# EAGLE library part M25HPS (library NewSDR)
SUB-D
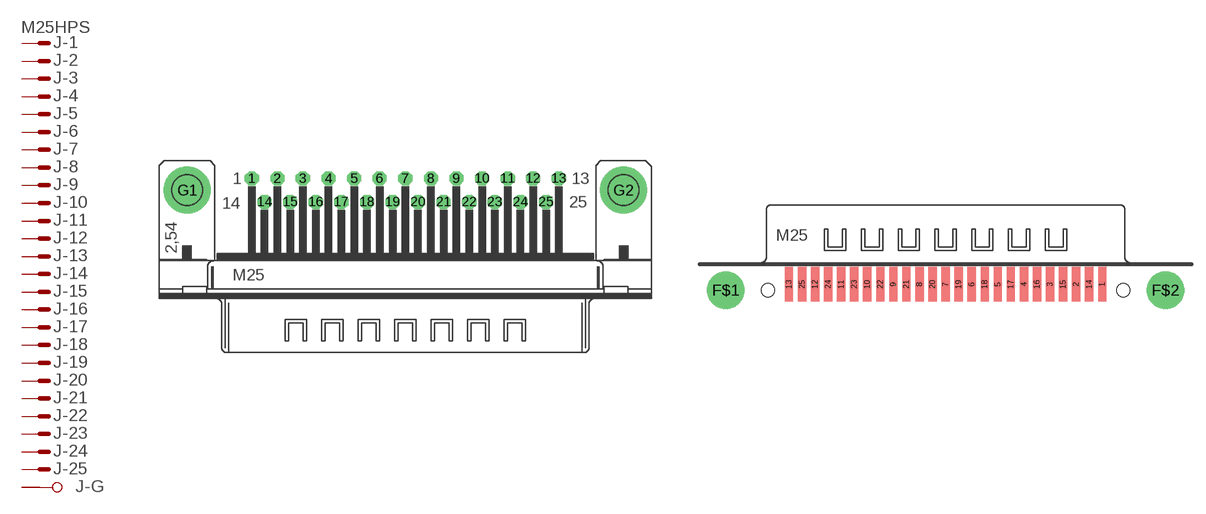
[diagram p9: symbol with the pads of M25HP; footprints M25HP, MS25HP]

Designator prefix J; gates -2=M -3=M -4=M -5=M -6=M -7=M -8=M -9=M -10=M -11=M -12=M -13=M -14=M -15=M -16=M -17=M -18=M -19=M -20=M -21=M -22=M -23=M -24=M -25=M -G=GND -1=MV

## M25HPS_TH  [M25HP]
1  -1:M  pas
2  -2:M  pas
3  -3:M  pas
4  -4:M  pas
5  -5:M  pas
6  -6:M  pas
7  -7:M  pas
8  -8:M  pas
9  -9:M  pas
10  -10:M  pas
11  -11:M  pas
12  -12:M  pas
13  -13:M  pas
14  -14:M  pas
15  -15:M  pas
16  -16:M  pas
17  -17:M  pas
18  -18:M  pas
19  -19:M  pas
20  -20:M  pas
21  -21:M  pas
22  -22:M  pas
23  -23:M  pas
24  -24:M  pas
25  -25:M  pas
G1  -G:G1  pas
G2  -G:G2  pas

## M25HPS_SM  [MS25HP]
1  -1:M  pas
2  -2:M  pas
3  -3:M  pas
4  -4:M  pas
5  -5:M  pas
6  -6:M  pas
7  -7:M  pas
8  -8:M  pas
9  -9:M  pas
10  -10:M  pas
11  -11:M  pas
12  -12:M  pas
13  -13:M  pas
14  -14:M  pas
15  -15:M  pas
16  -16:M  pas
17  -17:M  pas
18  -18:M  pas
19  -19:M  pas
20  -20:M  pas
21  -21:M  pas
22  -22:M  pas
23  -23:M  pas
24  -24:M  pas
25  -25:M  pas
F$1  -G:G1  pas
F$2  -G:G2  pas

## Footprint M25HP (pad centres in mm)
SUB-D
drill 1.016 octagon: 1 -16.561,1.27; 2 -13.792,1.27; 3 -11.049,1.27; 4 -8.28,1.27; 5 -5.512,1.27; 6 -2.769,1.27; 7 0,1.27; 8 2.769,1.27; 9 5.512,1.27; 10 8.28,1.27; 11 11.049,1.27; 12 13.792,1.27; 13 16.561,1.27; 14 -15.189,-1.27; 15 -12.421,-1.27; 16 -9.652,-1.27; 17 -6.909,-1.27; 18 -4.14,-1.27; 19 -1.372,-1.27; 20 1.372,-1.27; 21 4.14,-1.27; 22 6.909,-1.27; 23 9.652,-1.27; 24 12.421,-1.27; 25 15.189,-1.27
drill 3.302 pad 5.08: G1 -23.52,0; G2 23.52,0

## Footprint MS25HP (pad centres in mm)
smd 0.889 x 3.708: 1 16.764,-2.362; 2 13.97,-2.362; 3 11.176,-2.362; 4 8.382,-2.362; 5 5.588,-2.362; 6 2.794,-2.362; 7 0,-2.362; 8 -2.794,-2.362; 9 -5.588,-2.362; 10 -8.382,-2.362; 11 -11.176,-2.362; 12 -13.97,-2.362; 13 -16.764,-2.362; 14 15.367,-2.362; 15 12.573,-2.362; 16 9.779,-2.362; 17 6.985,-2.362; 18 4.191,-2.362; 19 1.397,-2.362; 20 -1.397,-2.362; 21 -4.191,-2.362; 22 -6.985,-2.362; 23 -9.779,-2.362; 24 -12.573,-2.362; 25 -15.367,-2.362
drill 2.997: F$1 -23.52,-2.997; F$2 23.52,-2.997
hole 1.397 at -19.025,-2.997
hole 1.397 at 19.025,-2.997